# Altium footprint library LaunchyRIOFootprints.PcbLib: 57 footprints (part 3 of 4)
Each footprint in its own frame and in the unit in brackets; x right, y up, seen from the top. Pads: shape width x height; smd on the part's side, far side on the other; paste and mask are expansions set on the pad; w line width, h text height; cw(c..) or ccw(c..) is an arc to the next point about the centre after c.
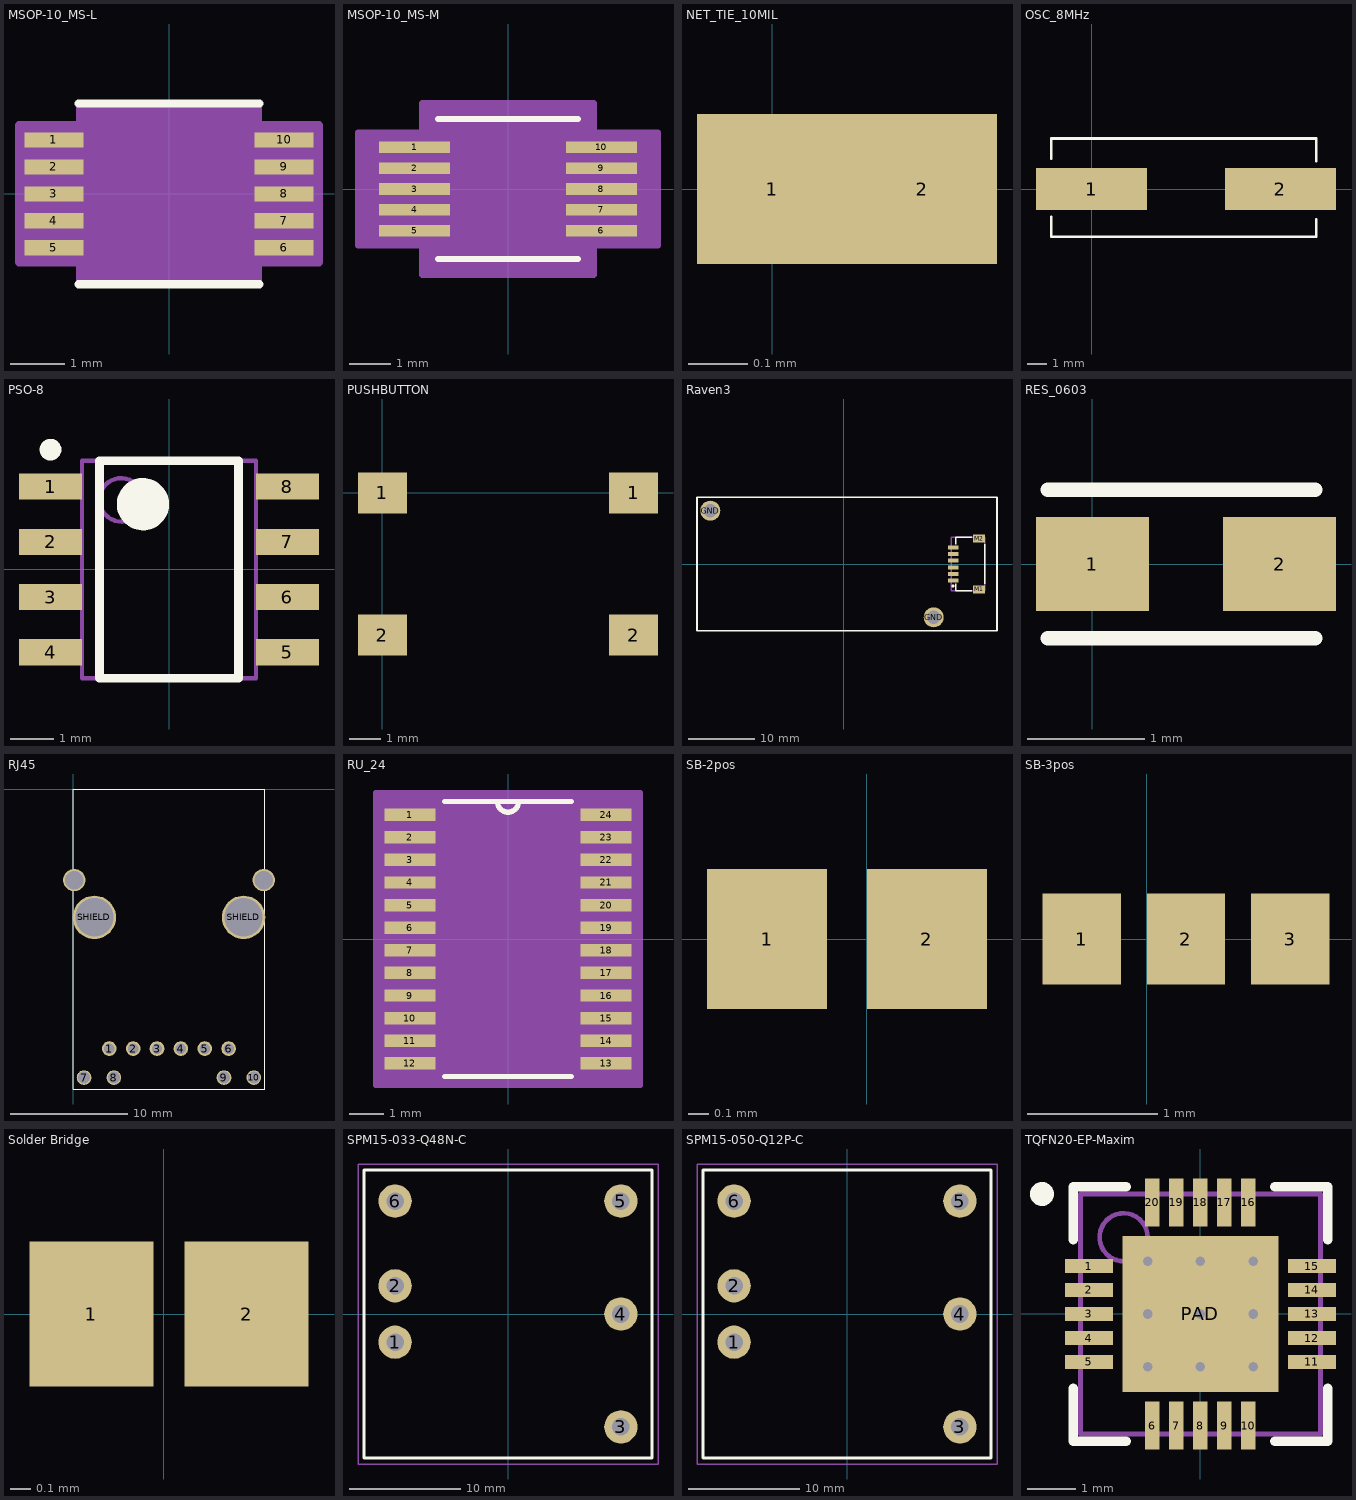
[diagram p2: the footprints below, top view; thin cyan lines are the x and y axes]

## MSOP-10_MS-L [mil]
pads (10):
  rect 43x11 smd: 1(-84,39.4) 2(-84,19.7) 3(-84,0) 4(-84,-19.7) 5(-84,-39.4) 6(84,-39.4) 7(84,-19.7) 8(84,0) 9(84,19.7) 10(84,39.4)
Top Overlay:
  lines w6: -66,-66 66,-66 ; -66,66 66,66
Mechanical 13:
  lines w0: -12,61 ccw(c0,61) 12,61
Mechanical 15:
  region: -65,-50.05 -109.5,-50.05 -109.5,50.05 -65,50.05 -65,65 65,65 65,50.05 109.5,50.05 109.5,-50.05 65,-50.05 65,-65 -65,-65
  lines w6: -109.5,-50.05 -109.5,50.05 -65,50.05 -65,65 65,65 65,50.05 109.5,50.05 109.5,-50.05 65,-50.05 65,-65 -65,-65 -65,-50.05 -109.5,-50.05
3D body "MSOP-10_MS-L.stp": height 43.1, standoff 0, extent -99.5,-61 99.5,61

## MSOP-10_MS-M [mil]
pads (10):
  rect 67x11 smd: 1(-88,39.4) 2(-88,19.7) 3(-88,0) 4(-88,-19.7) 5(-88,-39.4) 6(88,-39.4) 7(88,-19.7) 8(88,0) 9(88,19.7) 10(88,39.4)
Top Overlay:
  lines w6: -66,-66 66,-66 ; -66,66 66,66
Mechanical 13:
  lines w0: -12,61 ccw(c0,61) 12,61
Mechanical 15:
  region: -81,-53.25 -141.5,-53.25 -141.5,53.25 -81,53.25 -81,81 81,81 81,53.25 141.5,53.25 141.5,-53.25 81,-53.25 81,-81 -81,-81
  lines w6: -141.5,-53.25 -81,-53.25 -81,-81 81,-81 81,-53.25 141.5,-53.25 141.5,53.25 81,53.25 81,81 -81,81 -81,53.25 -141.5,53.25 -141.5,-53.25
3D body "MSOP-10_MS-M.stp": height 43.1, standoff 0, extent -99.5,-61 99.5,61

## NET_TIE_10MIL [mil]
pads (2):
  rect 10x10 smd paste+0 mask+4: 1(0,0) 2(10,0)

## OSC_8MHz [mil]
pads (2):
  rect 220x83 smd: 1(0,0) 2(374,0)
Top Overlay:
  lines w5: -80,-55 -80,-95 445,-95 445,-60 ; -80,60 -80,100 445,100 445,55

## PSO-8 [mm] "SOP, 8-Leads, Body 4.90x3.90mm, Pitch 1.27mm, IPC Medium Density"
height 1.76
pads (8):
  rect 1.45x0.6 smd: 1(-2.725,1.905) 2(-2.725,0.635) 3(-2.725,-0.635) 4(-2.725,-1.905) 5(2.725,-1.905) 6(2.725,-0.635) 7(2.725,0.635) 8(2.725,1.905)
Top Overlay:
  circle w0.25: c-2.725,2.755 r0.125
  circle w0.6: c-0.6,1.5 r0.3
  lines w0.2: -1.6,-2.5 -1.6,2.5 1.6,2.5 1.6,-2.5 -1.6,-2.5
Mechanical 13:
  circle w0.1: c-1.1,1.6 r0.5
  lines w0.1: -2,-2.5 -2,2.5 2,2.5 2,-2.5 -2,-2.5
3D body "PSO-8.step": height 1.75, standoff 0, extent -2.997,-2.5 2.997,2.5

## PUSHBUTTON [mm]
height 4.3
pads (4):
  rect 1.55x1.3 smd: 1(0,0) 1(7.95,0) 2(0,-4.5) 2(7.95,-4.5)

## Raven3 [mm]
pads (10):
  rect 1.55x0.6 smd: 1(16.425,-2.5) 2(16.425,-1.5) 3(16.425,-0.5) 4(16.425,0.5) 5(16.425,1.5) 6(16.425,2.5)
  round 3 hole 2: GND(-20,8) GND(13.5,-8)
  rect 1.8x1.2 smd: M1(20.3,-3.8) M2(20.3,3.8)
Top Overlay:
  circle w0.3: c16.4,-3.3 r0.1
  lines w0.2: 16.85,-3 16.85,-4 19.2,-4 ; 16.85,3 16.85,4 19.2,4 ; 21.15,-3 21.15,3
  lines w0.254: -22,-10 23,-10 23,10 -22,10 -22,-10
Mechanical 13:
  lines w0.2: 16.15,-4 21.15,-4 21.15,4 16.15,4 16.15,-4
3D body "665106131822.stp": height 2.97, standoff 0, extent 16.175,-4 21.125,4

## RES_0603 [mil]
pads (2):
  rect 38x31.5 smd: 1(0,0) 2(63,0)
Top Overlay:
  lines w5: -15,-25 75,-25 ; -15,25 75,25
3D body: height 15, standoff 0, extent 54.13,-15.75 64.96,15.75
3D body: height 15, standoff 0, extent -2.95,-15.75 7.87,15.75
3D body: height 15, standoff 0, extent 7.87,-15.75 54.13,15.75

## RJ45 [mm] "RJ45 Ethernet Connector"
pads (14):
  round 1.25 hole 0.89: 1(3.07,-22.09) 2(5.1,-22.09) 3(7.13,-22.09) 4(9.16,-22.09) 5(11.19,-22.09) 6(13.22,-22.09)
  round 1.25 hole 1.02: 7(0.92,-24.56) 8(3.46,-24.56) 9(12.83,-24.56) 10(15.37,-24.56)
  round 1.9 hole 1.57: SHIELD(0.09,-7.75) SHIELD(16.21,-7.75)
  round 3.7 hole 3.25: SHIELD(1.8,-10.92) SHIELD(14.5,-10.92)
Top Overlay:
  lines w0.1: 0,-25.53 0,0 16.31,0 16.31,-25.53 0,-25.53

## RU_24 [mil]
pads (24):
  rect 58x14 smd: 1(-111,140.75) 2(-111,115.16) 3(-111,89.57) 4(-111,63.98) 5(-111,38.39) 6(-111,12.8) 7(-111,-12.8) 8(-111,-38.39) 9(-111,-63.98) 10(-111,-89.57) 11(-111,-115.16) 12(-111,-140.75) 13(111,-140.75) 14(111,-115.16) 15(111,-89.57) 16(111,-63.98) 17(111,-38.39) 18(111,-12.8) 19(111,12.8) 20(111,38.39) 21(111,63.98) 22(111,89.57) 23(111,115.16) 24(111,140.75)
Top Overlay:
  lines w6: -71.56,-155.5 71.56,-155.5 ; -71.56,155.5 71.56,155.5 ; -12,155.5 ccw(c0,155.5) 12,155.5
Mechanical 13:
  lines w0: -12,155.5 ccw(c0,155.5) 12,155.5
Mechanical 15:
  region: 150,-165.5 -150,-165.5 -150,165.5 150,165.5
  lines w6: -150,-165.5 -150,165.5 150,165.5 150,-165.5 -150,-165.5
3D body "RU_24.stp": height 47.1, standoff 0, extent -126,-155.5 126,155.5

## SB-2pos [mm]
pads (2):
  rect 0.6x0.7 smd: 1(-0.5,0) 2(0.3,0)

## SB-3pos [mm]
pads (3):
  rect 0.6x0.7 smd: 1(-0.5,0) 2(0.3,0) 3(1.1,0)

## Solder Bridge [mm]
pads (2):
  rect 0.6x0.7 smd paste+0 mask+0: 1(-0.35,0) 2(0.4,0)
Top Solder:
  rectangle: -0.1,-0.4 0.2,0.4
  lines w0.127: -0.675,-0.375 0.7,-0.375 0.7,0.375 -0.625,0.375 -0.675,0.375 -0.675,-0.375

## SPM15-033-Q48N-C [mm] "Isolated Module DC DC Converter 1 Output 3.3V 4.5A 18V - 75V Input, 6-DIP Module"
height 10.41
pads (6):
  round 3 hole 1.575: 1(-10.16,-2.54) 2(-10.16,2.54) 3(10.16,-10.16) 4(10.16,0) 5(10.16,10.16) 6(-10.16,10.16)
Top Overlay:
  lines w0.254: -12.955,-12.955 -12.955,12.955 12.955,12.955 12.955,-12.955 -12.955,-12.955
Mechanical 1:
  lines w0.127: -13.5,-13.5 13.5,-13.5 13.5,13.5 -13.5,13.5 -13.5,-13.5

## SPM15-050-Q12P-C [mm] "Isolated Module DC DC Converter 1 Output 5V 3A 9V - 36V Input, 6-DIP Module"
height 10.41
pads (6):
  round 3 hole 1.575: 1(-10.16,-2.54) 2(-10.16,2.54) 3(10.16,-10.16) 4(10.16,0) 5(10.16,10.16) 6(-10.16,10.16)
Top Overlay:
  lines w0.254: -12.955,-12.955 12.955,-12.955 12.955,12.955 -12.955,12.955 -12.955,-12.955
Mechanical 1:
  lines w0.127: -13.5,-13.5 -13.5,13.5 13.5,13.5 13.5,-13.5 -13.5,-13.5

## TQFN20-EP-Maxim [mm]
height 0.8
pads (21):
  rect 1x0.3 smd: 1(-2.325,1) 2(-2.325,0.5) 3(-2.325,0) 4(-2.325,-0.5) 5(-2.325,-1) 11(2.325,-1) 12(2.325,-0.5) 13(2.325,0) 14(2.325,0.5) 15(2.325,1)
  rect 0.3x1 smd: 6(-1,-2.325) 7(-0.5,-2.325) 8(0,-2.325) 9(0.5,-2.325) 10(1,-2.325) 16(1,2.325) 17(0.5,2.325) 18(0,2.325) 19(-0.5,2.325) 20(-1,2.325)
  rect 3.25x3.25 smd: PAD(0,0)
via 1.1,-1.1 diameter 0.5 hole 0.2
via 0,-1.1 diameter 0.5 hole 0.2
via -1.1,-1.1 diameter 0.5 hole 0.2
via 1.1,0 diameter 0.5 hole 0.2
via 0,0 diameter 0.5 hole 0.2
via -1.1,0 diameter 0.5 hole 0.2
via 1.1,1.1 diameter 0.5 hole 0.2
via 0,1.1 diameter 0.5 hole 0.2
via -1.1,1.1 diameter 0.5 hole 0.2
Top Overlay:
  circle w0.25: c-3.3,2.5 r0.125
  lines w0.2: -2.65,-1.55 -2.65,-2.65 -1.55,-2.65 ; -2.65,1.55 -2.65,2.65 -1.55,2.65 ; 1.55,-2.65 2.65,-2.65 2.65,-1.55 ; 1.55,2.65 2.65,2.65 2.65,1.55
Mechanical 13:
  circle w0.1: c-1.6,1.6 r0.5
  lines w0.1: -2.5,-2.5 2.5,-2.5 2.5,2.5 -2.5,2.5 -2.5,-2.5
3D body: height 0.8, standoff 0.02, extent -2.5,-2.5 2.5,2.5